# Altium schematic symbol library GD25Q64CSIGR.SchLib: 2 symbols
Pins are listed as number, name and electrical type; pins without a type are passive.

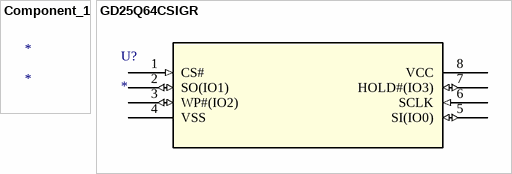
[diagram p0: symbols Component_1 to GD25Q64CSIGR]

## Component_1
designator *

## GD25Q64CSIGR
designator U?
No Description Available; Mfr_Name: GigaDevice; RefDes: RefDes; Type: Type
footprint SOP8_208MIL_GDV
pins: 1 CS# (in), 2 SO(IO1) (io), 3 WP#(IO2) (io), 4 VSS (power), 5 SI(IO0) (io), 6 SCLK (in), 7 HOLD#(IO3) (io), 8 VCC (power)